# Altium integrated library Capacitor_100nF.IntLib: 1 symbol
Pins are listed as number, name and electrical type; pins without a type are passive.

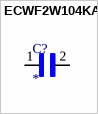
[diagram p0: symbol ECWF2W104KAQ]

## ECWF2W104KAQ
designator C?
MP: ECWF2W104KAQ; Value: *; Availability: Unavailable; Price: None; Package: None
footprint CAPRR1000W60L1300T510H1430
pins: 1, 2